# EAGLE library part MC34152 (library IC)
ON Semiconductor MC34152 Hiigh Speed Dual MOSFET Driver
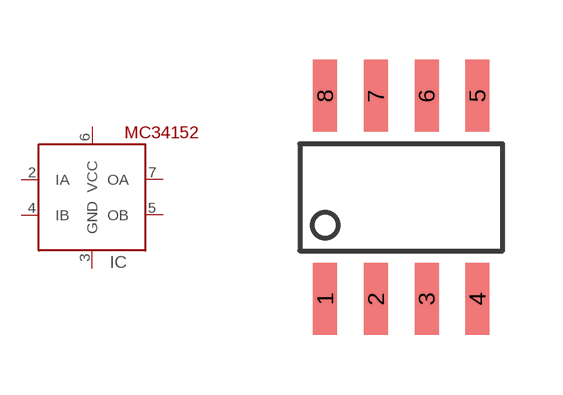
[diagram p111: symbol with the pads of SOIC8; footprint SOIC8]

Designator prefix IC

## MC34152-D  [SOIC8]
2  IA  in
3  GND  pwr
4  IB  in
5  OB  out
6  VCC  pwr
7  OA  out

## Footprint SOIC8 (pad centres in mm)
8 pin SOIC 150-mil package
smd 0.6 x 1.8: 1 -1.905,-2.54; 2 -0.635,-2.54; 3 0.635,-2.54; 4 1.905,-2.54; 5 1.905,2.54; 6 0.635,2.54; 7 -0.635,2.54; 8 -1.905,2.54